# Altium schematic symbol library QMC5883L.SchLib: 1 symbol
Pins are listed as number, name and electrical type; pins without a type are passive.

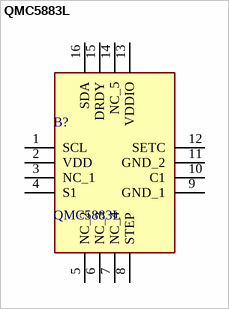
[diagram p0: symbol QMC5883L]

## QMC5883L
designator B?
3-Axis Magnetic Sensor; Manufacturer_Name: QST; Geometry.Height: 1.02mm; Manufacturer_Part_Number: QMC5883L; Mouser Part Number: *; Mouser Price/Stock: *; Arrow Part Number: *; Arrow Price/Stock: *; Datasheet Link: https://datasheet.lcsc.com/lcsc/2012221837_QST-QMC5883L_C976032.pdf
footprint QMC5883L
pins: 1 SCL, 2 VDD, 3 NC_1, 4 S1, 5 NC_2, 6 NC_3, 7 NC_4, 8 STEP, 9 GND_1, 10 C1, 11 GND_2, 12 SETC, 13 VDDIO, 14 NC_5, 15 DRDY, 16 SDA